# Altium schematic symbol library PC817C.SchLib: 1 symbol
Pins are listed as number, name and electrical type; pins without a type are passive.

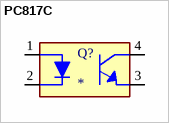
[diagram p0: symbol PC817C]

## PC817C
designator Q?
High Density Mounting Type Photocoupler; MP: PC817C; MF: {'manufacturer': u'Taiwan Semiconductor'}; Package: None; Value: *; Price: None; Availability: Unavailable
footprint DIP762W50P254L650H458Q4B (Footprint not found)
pins: 1, 2, 3, 4